# Altium footprint library LiPoKiller.PcbLib: 20 footprints (part 1 of 2)
Each footprint in its own frame and in the unit in brackets; x right, y up, seen from the top. Pads: shape width x height; smd on the part's side, far side on the other; paste and mask are expansions set on the pad; w line width, h text height; cw(c..) or ccw(c..) is an arc to the next point about the centre after c.
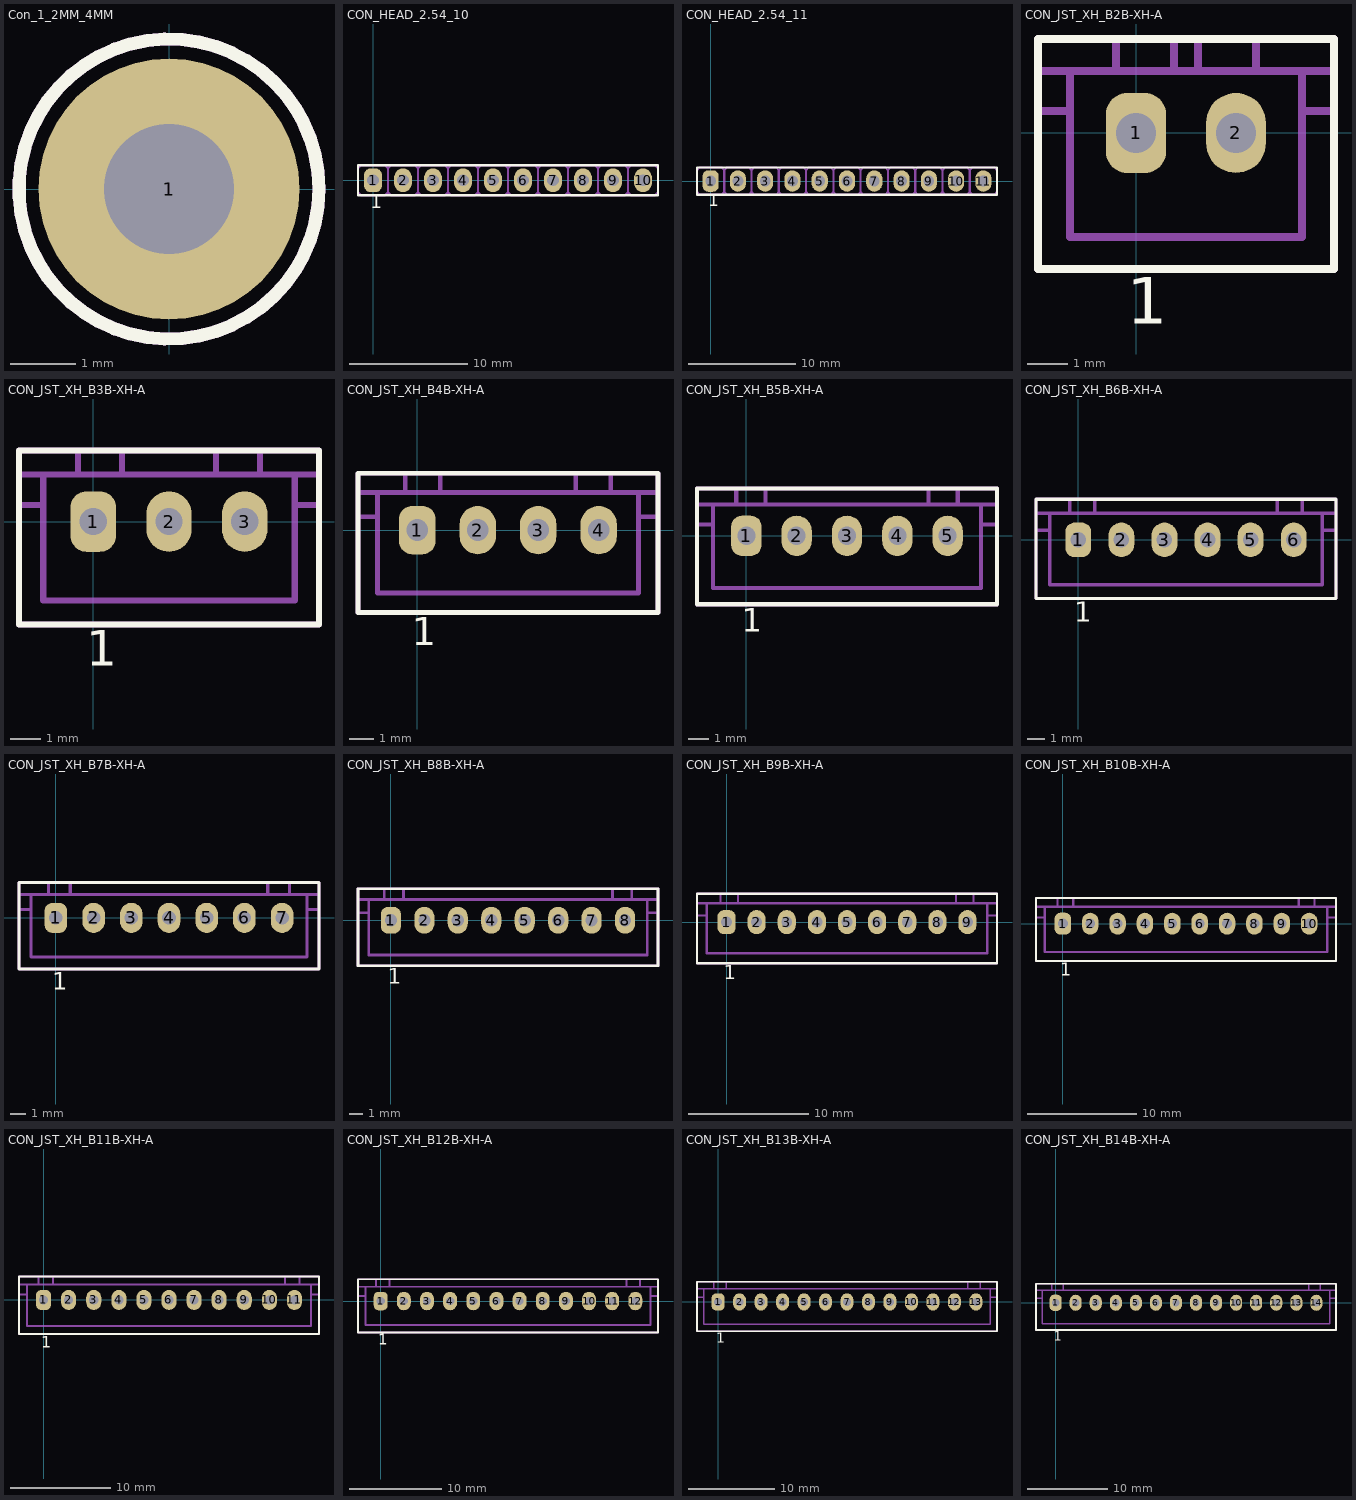
[diagram p0: the footprints below, top view; thin cyan lines are the x and y axes]

## Con_1_2MM_4MM [mm] "1 Pin, 2mm Drill, 4mm Pad"
pads (1):
  round 4 hole 2: 1(0,0)
Top Overlay:
  circle w0.2: c0,0 r2.3
Top Assembly:
  circle w0.2: c0,0 r2.3

## CON_HEAD_2.54_10 [mm] "Pin header 2.54mm grid, 10 pins"
pads (10):
  rrect70% 1.5x2 hole 1: 1(0,0)
  rrect100% 1.5x2 hole 1: 2(2.54,0) 3(5.08,0) 4(7.62,0) 5(10.16,0) 6(12.7,0) 7(15.24,0) 8(17.78,0) 9(20.32,0) 10(22.86,0)
Top Overlay:
  lines w0.2: -1.27,-1.27 -1.27,1.27 24.13,1.27 24.13,-1.27 -1.27,-1.27
  text "1" at -0.236,-2.751 h2
Bottom Overlay:
  text "1" at 0.236,-2.744 h2
Bottom 3D Body:
  lines w0.1: -0.35,-0.35 -0.35,0.35 0.35,0.35 0.35,-0.35 -0.35,-0.35 ; 2.19,-0.35 2.19,0.35 2.89,0.35 2.89,-0.35 2.19,-0.35 ; 4.73,-0.35 4.73,0.35 5.43,0.35 5.43,-0.35 4.73,-0.35 ; 7.27,-0.35 7.27,0.35 7.97,0.35 7.97,-0.35 7.27,-0.35 ; 9.81,-0.35 9.81,0.35 10.51,0.35 10.51,-0.35 9.81,-0.35 ; 12.35,-0.35 12.35,0.35 13.05,0.35 13.05,-0.35 12.35,-0.35 ; 14.89,-0.35 14.89,0.35 15.59,0.35 15.59,-0.35 14.89,-0.35 ; 17.43,-0.35 17.43,0.35 18.13,0.35 18.13,-0.35 17.43,-0.35 ; 19.97,-0.35 19.97,0.35 20.67,0.35 20.67,-0.35 19.97,-0.35 ; 22.51,-0.35 22.51,0.35 23.21,0.35 23.21,-0.35 22.51,-0.35
Top Assembly:
  lines w0.2: 1.27,-1.016 1.016,-1.27 -1.016,-1.27 -1.27,-1.016 -1.27,1.016 -1.016,1.27 1.016,1.27 1.27,1.016 ; 1.27,-1.016 1.27,1.016 ; 1.27,-1.016 1.524,-1.27 3.556,-1.27 3.81,-1.016 ; 1.27,1.016 1.524,1.27 3.556,1.27 3.81,1.016 ; 3.81,-1.016 3.81,1.016 ; 3.81,-1.016 4.064,-1.27 6.096,-1.27 6.35,-1.016 ; 3.81,1.016 4.064,1.27 6.096,1.27 6.35,1.016 ; 6.35,-1.016 6.35,1.016 ; 6.35,-1.016 6.604,-1.27 8.636,-1.27 8.89,-1.016 ; 6.35,1.016 6.604,1.27 8.636,1.27 8.89,1.016 ; 8.89,-1.016 8.89,1.016 ; 8.89,-1.016 9.144,-1.27 11.176,-1.27 11.43,-1.016 ; 8.89,1.016 9.144,1.27 11.176,1.27 11.43,1.016 ; 11.43,-1.016 11.43,1.016 ; 11.43,-1.016 11.684,-1.27 13.716,-1.27 13.97,-1.016 ; 11.43,1.016 11.684,1.27 13.716,1.27 13.97,1.016 ; 13.97,-1.016 13.97,1.016 ; 13.97,-1.016 14.224,-1.27 16.256,-1.27 16.51,-1.016 ; 13.97,1.016 14.224,1.27 16.256,1.27 16.51,1.016 ; 16.51,-1.016 16.51,1.016 ; 16.51,-1.016 16.764,-1.27 18.796,-1.27 19.05,-1.016 ; 16.51,1.016 16.764,1.27 18.796,1.27 19.05,1.016 ; 19.05,-1.016 19.05,1.016 ; 19.05,-1.016 19.304,-1.27 21.336,-1.27 21.59,-1.016 ; 19.05,1.016 19.304,1.27 21.336,1.27 21.59,1.016 ; 21.59,-1.016 21.59,1.016 ; 21.59,-1.016 21.844,-1.27 23.876,-1.27 24.13,-1.016 24.13,1.016 23.876,1.27 21.844,1.27 21.59,1.016
3D body: height 10, standoff -3, extent 22.51,-0.35 23.21,0.35
3D body: height 2.5, standoff 0, extent 21.59,-1.27 24.13,1.27
3D body: height 10, standoff -3, extent 19.97,-0.35 20.67,0.35
3D body: height 2.5, standoff 0, extent 19.05,-1.27 21.59,1.27
3D body: height 10, standoff -3, extent 17.43,-0.35 18.13,0.35
3D body: height 2.5, standoff 0, extent 16.51,-1.27 19.05,1.27
3D body: height 10, standoff -3, extent 14.89,-0.35 15.59,0.35
3D body: height 2.5, standoff 0, extent 13.97,-1.27 16.51,1.27
3D body: height 10, standoff -3, extent 12.35,-0.35 13.05,0.35
3D body: height 2.5, standoff 0, extent 11.43,-1.27 13.97,1.27
3D body: height 10, standoff -3, extent 9.81,-0.35 10.51,0.35
3D body: height 2.5, standoff 0, extent 8.89,-1.27 11.43,1.27
3D body: height 10, standoff -3, extent 7.27,-0.35 7.97,0.35
3D body: height 2.5, standoff 0, extent 6.35,-1.27 8.89,1.27
3D body: height 10, standoff -3, extent 4.73,-0.35 5.43,0.35
3D body: height 2.5, standoff 0, extent 3.81,-1.27 6.35,1.27
3D body: height 10, standoff -3, extent 2.19,-0.35 2.89,0.35
3D body: height 2.5, standoff 0, extent 1.27,-1.27 3.81,1.27
3D body: height 10, standoff -3, extent -0.35,-0.35 0.35,0.35
3D body: height 2.5, standoff 0, extent -1.27,-1.27 1.27,1.27

## CON_HEAD_2.54_11 [mm] "Pin header 2.54mm grid, 11 pins"
pads (11):
  rrect70% 1.5x2 hole 1: 1(0,0)
  rrect100% 1.5x2 hole 1: 2(2.54,0) 3(5.08,0) 4(7.62,0) 5(10.16,0) 6(12.7,0) 7(15.24,0) 8(17.78,0) 9(20.32,0) 10(22.86,0) 11(25.4,0)
Top Overlay:
  lines w0.2: -1.27,-1.27 26.67,-1.27 26.67,1.27 -1.27,1.27 -1.27,-1.27
  text "1" at -0.236,-2.751 h2
Bottom Overlay:
  text "1" at 0.236,-2.744 h2
Bottom 3D Body:
  lines w0.1: -0.35,-0.35 -0.35,0.35 0.35,0.35 0.35,-0.35 -0.35,-0.35 ; 2.19,-0.35 2.19,0.35 2.89,0.35 2.89,-0.35 2.19,-0.35 ; 4.73,-0.35 4.73,0.35 5.43,0.35 5.43,-0.35 4.73,-0.35 ; 7.27,-0.35 7.27,0.35 7.97,0.35 7.97,-0.35 7.27,-0.35 ; 9.81,-0.35 9.81,0.35 10.51,0.35 10.51,-0.35 9.81,-0.35 ; 12.35,-0.35 12.35,0.35 13.05,0.35 13.05,-0.35 12.35,-0.35 ; 14.89,-0.35 14.89,0.35 15.59,0.35 15.59,-0.35 14.89,-0.35 ; 17.43,-0.35 17.43,0.35 18.13,0.35 18.13,-0.35 17.43,-0.35 ; 19.97,-0.35 19.97,0.35 20.67,0.35 20.67,-0.35 19.97,-0.35 ; 22.51,-0.35 22.51,0.35 23.21,0.35 23.21,-0.35 22.51,-0.35 ; 25.05,-0.35 25.05,0.35 25.75,0.35 25.75,-0.35 25.05,-0.35
Top Assembly:
  lines w0.2: 1.27,-1.016 1.27,1.016 ; 1.27,-1.016 1.524,-1.27 3.556,-1.27 3.81,-1.016 ; 1.27,-1.016 1.016,-1.27 -1.016,-1.27 -1.27,-1.016 -1.27,1.016 -1.016,1.27 1.016,1.27 1.27,1.016 ; 1.27,1.016 1.524,1.27 3.556,1.27 3.81,1.016 ; 3.81,-1.016 4.064,-1.27 6.096,-1.27 6.35,-1.016 ; 3.81,-1.016 3.81,1.016 ; 3.81,1.016 4.064,1.27 6.096,1.27 6.35,1.016 ; 6.35,-1.016 6.604,-1.27 8.636,-1.27 8.89,-1.016 ; 6.35,-1.016 6.35,1.016 ; 6.35,1.016 6.604,1.27 8.636,1.27 8.89,1.016 ; 8.89,-1.016 9.144,-1.27 11.176,-1.27 11.43,-1.016 ; 8.89,-1.016 8.89,1.016 ; 8.89,1.016 9.144,1.27 11.176,1.27 11.43,1.016 ; 11.43,-1.016 11.684,-1.27 13.716,-1.27 13.97,-1.016 ; 11.43,-1.016 11.43,1.016 ; 11.43,1.016 11.684,1.27 13.716,1.27 13.97,1.016 ; 13.97,-1.016 14.224,-1.27 16.256,-1.27 16.51,-1.016 ; 13.97,-1.016 13.97,1.016 ; 13.97,1.016 14.224,1.27 16.256,1.27 16.51,1.016 ; 16.51,-1.016 16.51,1.016 ; 16.51,-1.016 16.764,-1.27 18.796,-1.27 19.05,-1.016 ; 16.51,1.016 16.764,1.27 18.796,1.27 19.05,1.016 ; 19.05,-1.016 19.304,-1.27 21.336,-1.27 21.59,-1.016 ; 19.05,-1.016 19.05,1.016 ; 19.05,1.016 19.304,1.27 21.336,1.27 21.59,1.016 ; 21.59,-1.016 21.844,-1.27 23.876,-1.27 24.13,-1.016 ; 21.59,-1.016 21.59,1.016 ; 21.59,1.016 21.844,1.27 23.876,1.27 24.13,1.016 ; 24.13,-1.016 24.384,-1.27 26.416,-1.27 26.67,-1.016 26.67,1.016 26.416,1.27 24.384,1.27 24.13,1.016 ; 24.13,-1.016 24.13,1.016
3D body: height 10, standoff -3, extent 22.51,-0.35 23.21,0.35
3D body: height 2.5, standoff 0, extent 21.59,-1.27 24.13,1.27
3D body: height 10, standoff -3, extent 19.97,-0.35 20.67,0.35
3D body: height 2.5, standoff 0, extent 19.05,-1.27 21.59,1.27
3D body: height 10, standoff -3, extent 17.43,-0.35 18.13,0.35
3D body: height 2.5, standoff 0, extent 16.51,-1.27 19.05,1.27
3D body: height 10, standoff -3, extent 14.89,-0.35 15.59,0.35
3D body: height 2.5, standoff 0, extent 13.97,-1.27 16.51,1.27
3D body: height 10, standoff -3, extent 12.35,-0.35 13.05,0.35
3D body: height 2.5, standoff 0, extent 11.43,-1.27 13.97,1.27
3D body: height 10, standoff -3, extent 9.81,-0.35 10.51,0.35
3D body: height 2.5, standoff 0, extent 8.89,-1.27 11.43,1.27
3D body: height 10, standoff -3, extent 7.27,-0.35 7.97,0.35
3D body: height 2.5, standoff 0, extent 6.35,-1.27 8.89,1.27
3D body: height 10, standoff -3, extent 4.73,-0.35 5.43,0.35
3D body: height 2.5, standoff 0, extent 3.81,-1.27 6.35,1.27
3D body: height 10, standoff -3, extent 2.19,-0.35 2.89,0.35
3D body: height 2.5, standoff 0, extent 1.27,-1.27 3.81,1.27
3D body: height 10, standoff -3, extent -0.35,-0.35 0.35,0.35
3D body: height 2.5, standoff 0, extent -1.27,-1.27 1.27,1.27
3D body: height 10, standoff -3, extent 25.05,-0.35 25.75,0.35
3D body: height 2.5, standoff 0, extent 24.13,-1.27 26.67,1.27

## CON_JST_XH_B2B-XH-A [mm] "JST XH 2 Pin"
pads (2):
  rrect70% 1.5x2 hole 1: 1(0,0)
  rrect100% 1.5x2 hole 1: 2(2.5,0)
Top Overlay:
  lines w0.2: -2.45,-3.4 4.95,-3.4 4.95,2.35 -2.45,2.35 -2.45,-3.4
  text "1" at -0.236,-5.151 h2
Bottom Overlay:
  text "1" at 0.236,-2.644 h2
Top Assembly:
  lines w0.2: -2.45,0.55 -1.65,0.55 ; -2.45,1.55 4.95,1.55 ; -1.65,1.55 -1.65,-2.6 4.15,-2.6 4.15,1.55 ; -0.5,1.55 -0.5,2.35 ; 0.95,1.55 0.95,2.35 ; 1.55,1.55 1.55,2.35 ; 3,1.55 3,2.35 ; 4.15,0.55 4.95,0.55 ; -2.45,-3.4 -2.45,2.35 4.95,2.35 4.95,-3.4 -2.45,-3.4
3D body "B2B-XH-A.STEP": height 7, standoff -3.4, extent -2.45,-3.4 4.95,2.35

## CON_JST_XH_B3B-XH-A [mm] "JST XH 3 Pin"
pads (3):
  rrect70% 1.5x2 hole 0.9: 1(0,0)
  rrect100% 1.5x2 hole 0.9: 2(2.5,0) 3(5,0)
Top Overlay:
  lines w0.2: -2.45,-3.4 7.45,-3.4 7.45,2.35 -2.45,2.35 -2.45,-3.4
  text "1" at -0.236,-5.151 h2
Bottom Overlay:
  text "1" at 0.236,-2.644 h2
Top Assembly:
  lines w0.2: -2.45,0.55 -1.65,0.55 ; -2.45,1.55 7.45,1.55 ; -1.65,1.55 -1.65,-2.6 6.65,-2.6 6.65,1.55 ; -0.5,1.55 -0.5,2.35 ; 0.95,1.55 0.95,2.35 ; 4.05,1.55 4.05,2.35 ; 5.5,1.55 5.5,2.35 ; 6.65,0.55 7.45,0.55 ; -2.45,-3.4 -2.45,2.35 7.45,2.35 7.45,-3.4 -2.45,-3.4
3D body "B3B-XH-A.STEP": height 7, standoff -3.4, extent -2.45,-3.4 7.45,2.35

## CON_JST_XH_B4B-XH-A [mm] "JST XH 4 Pin"
pads (4):
  rrect70% 1.5x2 hole 0.9: 1(0,0)
  rrect100% 1.5x2 hole 0.9: 2(2.5,0) 3(5,0) 4(7.5,0)
Top Overlay:
  lines w0.2: -2.45,-3.4 -2.45,2.35 9.95,2.35 9.95,-3.4 -2.45,-3.4
  text "1" at -0.236,-5.151 h2
Bottom Overlay:
  text "1" at 0.236,-2.644 h2
Top Assembly:
  lines w0.2: -2.45,0.55 -1.65,0.55 ; -2.45,1.55 9.95,1.55 ; -1.65,1.55 -1.65,-2.6 9.15,-2.6 9.15,1.55 ; -0.5,1.55 -0.5,2.35 ; 0.95,1.55 0.95,2.35 ; 6.55,1.55 6.55,2.35 ; 8,1.55 8,2.35 ; 9.15,0.55 9.95,0.55 ; -2.45,-3.4 -2.45,2.35 9.95,2.35 9.95,-3.4 -2.45,-3.4
3D body "B4B-XH-A.STEP": height 7, standoff -3.4, extent -2.45,-3.4 9.95,2.35

## CON_JST_XH_B5B-XH-A [mm] "JST XH 5 Pin"
pads (5):
  rrect70% 1.5x2 hole 0.9: 1(0,0)
  rrect100% 1.5x2 hole 0.9: 2(2.5,0) 3(5,0) 4(7.5,0) 5(10,0)
Top Overlay:
  lines w0.2: -2.45,-3.4 12.45,-3.4 12.45,2.35 -2.45,2.35 -2.45,-3.4
  text "1" at -0.236,-5.151 h2
Bottom Overlay:
  text "1" at 0.236,-2.644 h2
Top Assembly:
  lines w0.2: -2.45,0.55 -1.65,0.55 ; -2.45,1.55 12.45,1.55 ; -1.65,1.55 -1.65,-2.6 11.65,-2.6 11.65,1.55 ; -0.5,1.55 -0.5,2.35 ; 0.95,1.55 0.95,2.35 ; 9.05,1.55 9.05,2.35 ; 10.5,1.55 10.5,2.35 ; 11.65,0.55 12.45,0.55 ; -2.45,-3.4 12.45,-3.4 12.45,2.35 -2.45,2.35 -2.45,-3.4
3D body "B5B-XH-A.STEP": height 7, standoff -3.4, extent -2.45,-3.4 12.45,2.35

## CON_JST_XH_B6B-XH-A [mm] "JST XH 6 Pin"
pads (6):
  rrect70% 1.5x2 hole 0.9: 1(0,0)
  rrect100% 1.5x2 hole 0.9: 2(2.5,0) 3(5,0) 4(7.5,0) 5(10,0) 6(12.5,0)
Top Overlay:
  lines w0.2: -2.45,-3.4 -2.45,2.35 14.95,2.35 14.95,-3.4 -2.45,-3.4
  text "1" at -0.236,-5.151 h2
Bottom Overlay:
  text "1" at 0.236,-2.644 h2
Top Assembly:
  lines w0.2: -2.45,0.55 -1.65,0.55 ; -2.45,1.55 14.95,1.55 ; -1.65,1.55 -1.65,-2.6 14.15,-2.6 14.15,1.55 ; -0.5,1.55 -0.5,2.35 ; 0.95,1.55 0.95,2.35 ; 11.55,1.55 11.55,2.35 ; 13,1.55 13,2.35 ; 14.15,0.55 14.95,0.55 ; -2.45,-3.4 -2.45,2.35 14.95,2.35 14.95,-3.4 -2.45,-3.4
3D body "B6B-XH-A.STEP": height 7, standoff -3.4, extent -2.45,-3.4 14.95,2.35

## CON_JST_XH_B7B-XH-A [mm] "JST XH 7 Pin"
pads (7):
  rrect70% 1.5x2 hole 0.9: 1(0,0)
  rrect100% 1.5x2 hole 0.9: 2(2.5,0) 3(5,0) 4(7.5,0) 5(10,0) 6(12.5,0) 7(15,0)
Top Overlay:
  lines w0.2: -2.45,-3.4 -2.45,2.35 17.45,2.35 17.45,-3.4 -2.45,-3.4
  text "1" at -0.236,-5.151 h2
Bottom Overlay:
  text "1" at 0.236,-2.644 h2
Top Assembly:
  lines w0.2: -2.45,0.55 -1.65,0.55 ; -2.45,1.55 17.45,1.55 ; -1.65,1.55 -1.65,-2.6 16.65,-2.6 16.65,1.55 ; -0.5,1.55 -0.5,2.35 ; 0.95,1.55 0.95,2.35 ; 14.05,1.55 14.05,2.35 ; 15.5,1.55 15.5,2.35 ; 16.65,0.55 17.45,0.55 ; -2.45,-3.4 -2.45,2.35 17.45,2.35 17.45,-3.4 -2.45,-3.4
3D body "B7B-XH-A.STEP": height 7, standoff -3.4, extent -2.45,-3.4 17.45,2.35

## CON_JST_XH_B8B-XH-A [mm] "JST XH 8 Pin"
pads (8):
  rrect70% 1.5x2 hole 0.9: 1(0,0)
  rrect100% 1.5x2 hole 0.9: 2(2.5,0) 3(5,0) 4(7.5,0) 5(10,0) 6(12.5,0) 7(15,0) 8(17.5,0)
Top Overlay:
  lines w0.2: -2.45,-3.4 -2.45,2.35 19.95,2.35 19.95,-3.4 -2.45,-3.4
  text "1" at -0.236,-5.151 h2
Bottom Overlay:
  text "1" at 0.236,-2.644 h2
Top Assembly:
  lines w0.2: -2.45,0.55 -1.65,0.55 ; -2.45,1.55 19.95,1.55 ; -1.65,1.55 -1.65,-2.6 19.15,-2.6 19.15,1.55 ; -0.5,1.55 -0.5,2.35 ; 0.95,1.55 0.95,2.35 ; 16.55,1.55 16.55,2.35 ; 18,1.55 18,2.35 ; 19.15,0.55 19.95,0.55 ; -2.45,-3.4 -2.45,2.35 19.95,2.35 19.95,-3.4 -2.45,-3.4
3D body "B8B-XH-A.STEP": height 7, standoff -3.4, extent -2.45,-3.4 19.95,2.35

## CON_JST_XH_B9B-XH-A [mm] "JST XH 9 Pin"
pads (9):
  rrect70% 1.5x2 hole 0.9: 1(0,0)
  rrect100% 1.5x2 hole 0.9: 2(2.5,0) 3(5,0) 4(7.5,0) 5(10,0) 6(12.5,0) 7(15,0) 8(17.5,0) 9(20,0)
Top Overlay:
  lines w0.2: -2.45,-3.4 -2.45,2.35 22.45,2.35 22.45,-3.4 -2.45,-3.4
  text "1" at -0.236,-5.151 h2
Bottom Overlay:
  text "1" at 0.236,-2.644 h2
Top Assembly:
  lines w0.2: -2.45,0.55 -1.65,0.55 ; -2.45,1.55 22.45,1.55 ; -1.65,1.55 -1.65,-2.6 21.65,-2.6 21.65,1.55 ; -0.5,1.55 -0.5,2.35 ; 0.95,1.55 0.95,2.35 ; 19.05,1.55 19.05,2.35 ; 20.5,1.55 20.5,2.35 ; 21.65,0.55 22.45,0.55 ; -2.45,-3.4 -2.45,2.35 22.45,2.35 22.45,-3.4 -2.45,-3.4
3D body "B9B-XH-A.STEP": height 7.01, standoff -3.39, extent -2.45,-3.4 22.45,2.35

## CON_JST_XH_B10B-XH-A [mm] "JST XH 10 Pin"
pads (10):
  rrect70% 1.5x2 hole 0.9: 1(0,0)
  rrect100% 1.5x2 hole 0.9: 2(2.5,0) 3(5,0) 4(7.5,0) 5(10,0) 6(12.5,0) 7(15,0) 8(17.5,0) 9(20,0) 10(22.5,0)
Top Overlay:
  lines w0.2: -2.45,-3.4 -2.45,2.35 24.95,2.35 24.95,-3.4 -2.45,-3.4
  text "1" at -0.236,-5.151 h2
Bottom Overlay:
  text "1" at 0.236,-2.644 h2
Top Assembly:
  lines w0.2: -2.45,0.55 -1.65,0.55 ; -2.45,1.55 24.95,1.55 ; -1.65,1.55 -1.65,-2.6 24.15,-2.6 24.15,1.55 ; -0.5,1.55 -0.5,2.35 ; 0.95,1.55 0.95,2.35 ; 21.55,1.55 21.55,2.35 ; 23,1.55 23,2.35 ; 24.15,0.55 24.95,0.55 ; -2.45,-3.4 -2.45,2.35 24.95,2.35 24.95,-3.4 -2.45,-3.4
3D body "B10B-XH-A.STEP": height 7.01, standoff -3.39, extent -2.45,-3.4 24.95,2.35

## CON_JST_XH_B11B-XH-A [mm] "JST XH 11 Pin"
pads (11):
  rrect70% 1.5x2 hole 0.9: 1(0,0)
  rrect100% 1.5x2 hole 0.9: 2(2.5,0) 3(5,0) 4(7.5,0) 5(10,0) 6(12.5,0) 7(15,0) 8(17.5,0) 9(20,0) 10(22.5,0) 11(25,0)
Top Overlay:
  lines w0.2: -2.45,-3.4 -2.45,2.35 27.45,2.35 27.45,-3.4 -2.45,-3.4
  text "1" at -0.236,-5.151 h2
Bottom Overlay:
  text "1" at 0.236,-2.644 h2
Top Assembly:
  lines w0.2: -2.45,0.55 -1.65,0.55 ; -2.45,1.55 27.45,1.55 ; -1.65,1.55 -1.65,-2.6 26.65,-2.6 26.65,1.55 ; -0.5,1.55 -0.5,2.35 ; 0.95,1.55 0.95,2.35 ; 24.05,1.55 24.05,2.35 ; 25.5,1.55 25.5,2.35 ; 26.65,0.55 27.45,0.55 ; -2.45,-3.4 -2.45,2.35 27.45,2.35 27.45,-3.4 -2.45,-3.4
3D body "B11B-XH-A.STEP": height 7, standoff -3.4, extent -2.45,-3.4 27.45,2.35

## CON_JST_XH_B12B-XH-A [mm] "JST XH 12 Pin"
pads (12):
  rrect70% 1.5x2 hole 0.9: 1(0,0)
  rrect100% 1.5x2 hole 0.9: 2(2.5,0) 3(5,0) 4(7.5,0) 5(10,0) 6(12.5,0) 7(15,0) 8(17.5,0) 9(20,0) 10(22.5,0) 11(25,0) 12(27.5,0)
Top Overlay:
  lines w0.2: -2.45,-3.4 -2.45,2.35 29.95,2.35 29.95,-3.4 -2.45,-3.4
  text "1" at -0.236,-5.151 h2
Bottom Overlay:
  text "1" at 0.236,-2.644 h2
Top Assembly:
  lines w0.2: -2.45,0.55 -1.65,0.55 ; -2.45,1.55 29.95,1.55 ; -1.65,1.55 -1.65,-2.6 29.15,-2.6 29.15,1.55 ; -0.5,1.55 -0.5,2.35 ; 0.95,1.55 0.95,2.35 ; 26.55,1.55 26.55,2.35 ; 28,1.55 28,2.35 ; 29.15,0.55 29.95,0.55 ; -2.45,-3.4 -2.45,2.35 29.95,2.35 29.95,-3.4 -2.45,-3.4
3D body "B12B-XH-A.STEP": height 7, standoff -3.4, extent -2.45,-3.4 29.95,2.35

## CON_JST_XH_B13B-XH-A [mm] "JST XH 13 Pin"
pads (13):
  rrect70% 1.5x2 hole 0.9: 1(0,0)
  rrect100% 1.5x2 hole 0.9: 2(2.5,0) 3(5,0) 4(7.5,0) 5(10,0) 6(12.5,0) 7(15,0) 8(17.5,0) 9(20,0) 10(22.5,0) 11(25,0) 12(27.5,0) 13(30,0)
Top Overlay:
  lines w0.2: -2.45,-3.4 -2.45,2.35 32.45,2.35 32.45,-3.4 -2.45,-3.4
  text "1" at -0.236,-5.151 h2
Bottom Overlay:
  text "1" at 0.236,-2.644 h2
Top Assembly:
  lines w0.2: -2.45,0.55 -1.65,0.55 ; -2.45,1.55 32.45,1.55 ; -1.65,1.55 -1.65,-2.6 31.65,-2.6 31.65,1.55 ; -0.5,1.55 -0.5,2.35 ; 0.95,1.55 0.95,2.35 ; 29.05,1.55 29.05,2.35 ; 30.5,1.55 30.5,2.35 ; 31.65,0.55 32.45,0.55 ; -2.45,-3.4 -2.45,2.35 32.45,2.35 32.45,-3.4 -2.45,-3.4
3D body "B13B-XH-A.STEP": height 7, standoff -3.4, extent -2.45,-3.4 32.45,2.35

## CON_JST_XH_B14B-XH-A [mm] "JST XH 14 Pin"
pads (14):
  rrect70% 1.5x2 hole 0.9: 1(0,0)
  rrect100% 1.5x2 hole 0.9: 2(2.5,0) 3(5,0) 4(7.5,0) 5(10,0) 6(12.5,0) 7(15,0) 8(17.5,0) 9(20,0) 10(22.5,0) 11(25,0) 12(27.5,0) 13(30,0) 14(32.5,0)
Top Overlay:
  lines w0.2: -2.45,-3.4 -2.45,2.35 34.95,2.35 34.95,-3.4 -2.45,-3.4
  text "1" at -0.236,-5.151 h2
Bottom Overlay:
  text "1" at 0.236,-2.644 h2
Top Assembly:
  lines w0.2: -2.45,0.55 -1.65,0.55 ; -2.45,1.55 34.95,1.55 ; -1.65,1.55 -1.65,-2.6 34.15,-2.6 34.15,1.55 ; -0.5,1.55 -0.5,2.35 ; 0.95,1.55 0.95,2.35 ; 31.55,1.55 31.55,2.35 ; 33,1.55 33,2.35 ; 34.15,0.55 34.95,0.55 ; -2.45,-3.4 -2.45,2.35 34.95,2.35 34.95,-3.4 -2.45,-3.4
3D body "B14B-XH-A.STEP": height 7, standoff -3.4, extent -2.45,-3.4 34.95,2.35